# EAGLE library part PIC18F458 (library Mes_uC)
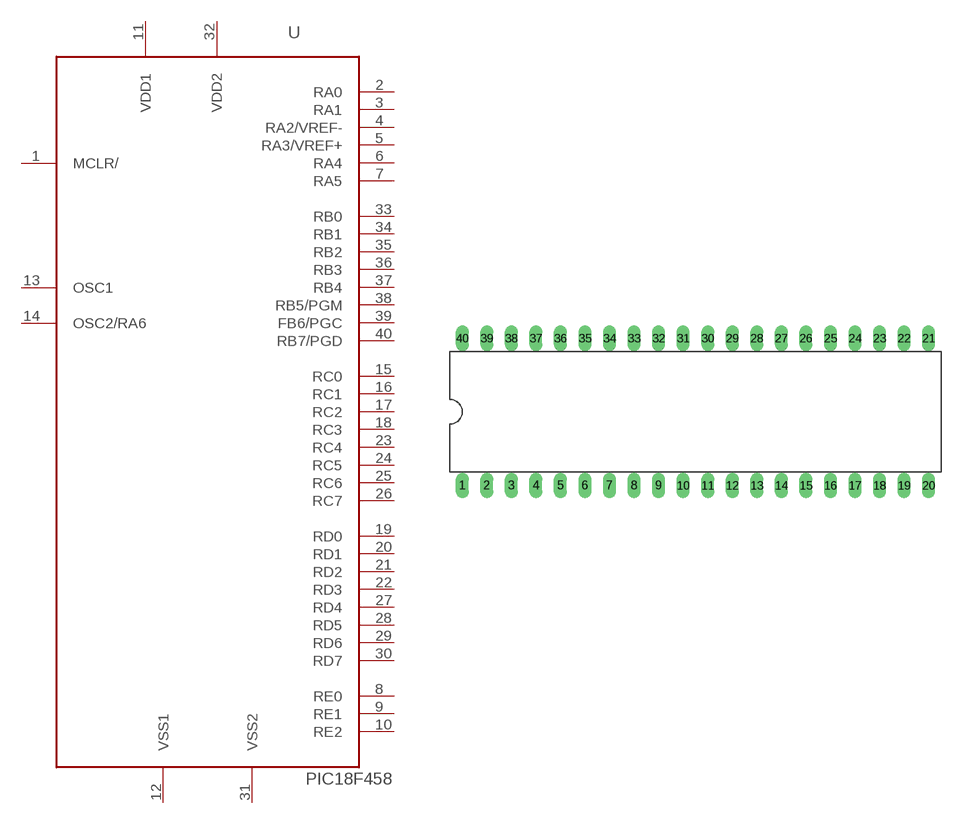
[diagram p2: symbol with the pads of DIP40; footprint DIP40]

Designator prefix U

## PIC18F458  [DIP40]
1  MCLR/
2  RA0
3  RA1
4  RA2/VREF-
5  RA3/VREF+
6  RA4
7  RA5
8  RE0
9  RE1
10  RE2
11  VDD1
12  VSS1
13  OSC1
14  OSC2/RA6
15  RC0
16  RC1
17  RC2
18  RC3
19  RD0
20  RD1
21  RD2
22  RD3
23  RC4
24  RC5
25  RC6
26  RC7
27  RD4
28  RD5
29  RD6
30  RD7
31  VSS2
32  VDD2
33  RB0
34  RB1
35  RB2
36  RB3
37  RB4
38  RB5/PGM
39  FB6/PGC
40  RB7/PGD

## Footprint DIP40 (pad centres in mm)
drill 0.813 long: 1 -22.86,-7.62; 2 -20.32,-7.62; 3 -17.78,-7.62; 4 -15.24,-7.62; 5 -12.7,-7.62; 6 -10.16,-7.62; 7 -7.62,-7.62; 8 -5.08,-7.62; 9 -2.54,-7.62; 10 0,-7.62; 11 2.54,-7.62; 12 5.08,-7.62; 13 7.62,-7.62; 14 10.16,-7.62; 15 12.7,-7.62; 16 15.24,-7.62; 17 17.78,-7.62; 18 20.32,-7.62; 19 22.86,-7.62; 20 25.4,-7.62; 21 25.4,7.62; 22 22.86,7.62; 23 20.32,7.62; 24 17.78,7.62; 25 15.24,7.62; 26 12.7,7.62; 27 10.16,7.62; 28 7.62,7.62; 29 5.08,7.62; 30 2.54,7.62; 31 0,7.62; 32 -2.54,7.62; 33 -5.08,7.62; 34 -7.62,7.62; 35 -10.16,7.62; 36 -12.7,7.62; 37 -15.24,7.62; 38 -17.78,7.62; 39 -20.32,7.62; 40 -22.86,7.62